# Altium schematic symbol library AOD417 PMOS.SchLib: 1 symbol
Pins are listed as number, name and electrical type; pins without a type are passive.

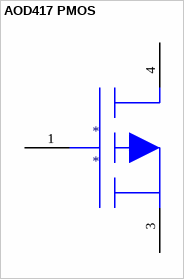
[diagram p0: symbol AOD417 PMOS]

## AOD417 PMOS
designator *
footprint TO252- no center pin
pins: 1 1 - Gate, 3 3 - Source, 4 4 - Drain